# Altium schematic symbol library Schurter.SchLib: 1 symbol
Pins are listed as number, name and electrical type; pins without a type are passive.

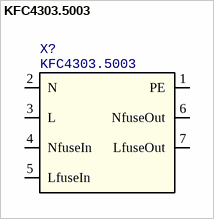
[diagram p0: symbol KFC4303.5003]

## KFC4303.5003
designator X?
AC Power Entry Module, Filtered, Fused; Manufacturer 1: Schurter; Manufacturer Part Number 1: KFC4303.5003
pins: 1 PE (power), 2 N (power), 3 L (power), 4 NfuseIn (power), 5 LfuseIn (power), 6 NfuseOut (power), 7 LfuseOut (power)